# EAGLE library part PTSM_1771088 (library Custom)
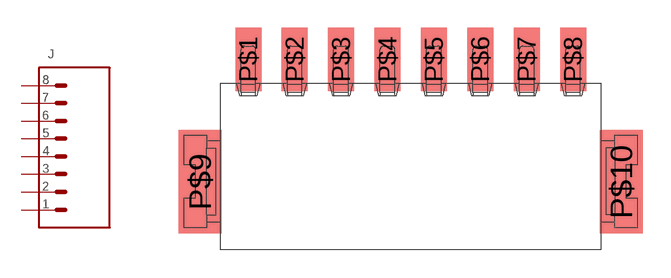
[diagram p2: symbol with the pads of PTSM_1771088; footprint PTSM_1771088]

Designator prefix J

## PTSM_1771088  [PTSM_1771088]
P$1  S1  pas
P$2  S2  pas
P$3  S3  pas
P$4  S4  pas
P$5  S5  pas
P$6  S6  pas
P$7  S7  pas
P$8  S8  pas

## Footprint PTSM_1771088 (pad centres in mm)
smd 1.4 x 3.4: P$1 -8.75,6.6; P$2 -6.25,6.6; P$3 -3.75,6.6; P$4 -1.25,6.6; P$5 1.25,6.6; P$6 3.75,6.6; P$7 6.25,6.6; P$8 8.75,6.6
smd 2.3 x 5.6: P$9 -11.35,0; P$10 11.35,0